# EAGLE library part FT232 (library 000001)
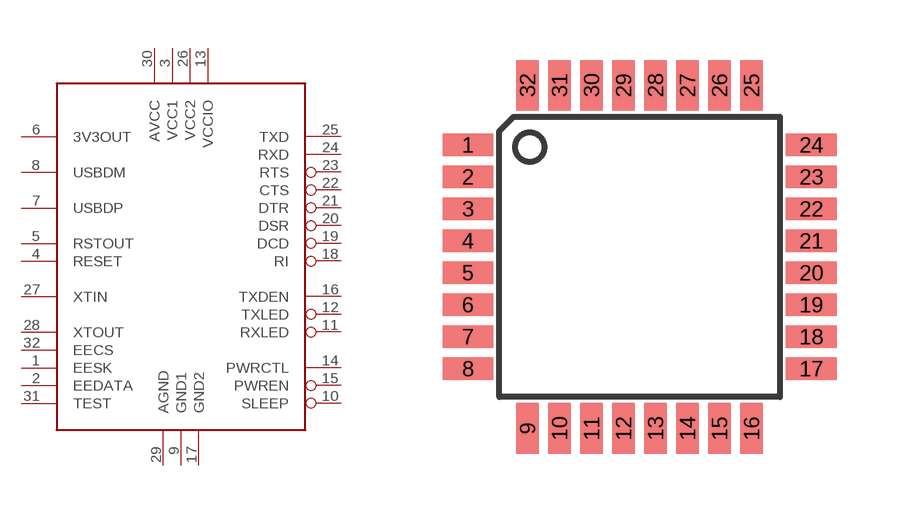
[diagram p36: symbol with the pads of TQFP32-08; footprint TQFP32-08]

Designator prefix -

## FT232  [TQFP32-08]
1  EESK
2  EEDATA
3  VCC1  pwr
4  RESET
5  RSTOUT
6  3V3OUT
7  USBDP
8  USBDM
9  GND1  pwr
10  SLEEP
11  RXLED
12  TXLED
13  VCCIO  pwr
14  PWRCTL
15  PWREN
16  TXDEN
17  GND2  pwr
18  RI
19  DCD
20  DSR
21  DTR
22  CTS
23  RTS
24  RXD
25  TXD
26  VCC2  pwr
27  XTIN
28  XTOUT
29  AGND  pwr
30  AVCC  pwr
31  TEST
32  EECS

## Footprint TQFP32-08 (pad centres in mm)
Thin Plasic Quad Flat Package Grid 0.8 mm
smd 1.27 x 0.559: 1 -4.293,2.8; 2 -4.293,2; 3 -4.293,1.2; 4 -4.293,0.4; 5 -4.293,-0.4; 6 -4.293,-1.2; 7 -4.293,-2; 8 -4.293,-2.8; 17 4.293,-2.8; 18 4.293,-2; 19 4.293,-1.2; 20 4.293,-0.4; 21 4.293,0.4; 22 4.293,1.2; 23 4.293,2; 24 4.293,2.8
smd 0.559 x 1.27: 9 -2.8,-4.293; 10 -2,-4.293; 11 -1.2,-4.293; 12 -0.4,-4.293; 13 0.4,-4.293; 14 1.2,-4.293; 15 2,-4.293; 16 2.8,-4.293; 25 2.8,4.293; 26 2,4.293; 27 1.2,4.293; 28 0.4,4.293; 29 -0.4,4.293; 30 -1.2,4.293; 31 -2,4.293; 32 -2.8,4.293